# EAGLE library part 6861XX148922_686114148922 (library Wurth_Connectors_WR-FPC)
WR-FPC 1.00 mm SMT ZIF Horizontal - Bottom Contact - Hinge Type KIND PROPERTIES Pitch 1 mm MATERIAL PROPERTIES Insulator Material PA6T Contact Material Phosphor Bronze Contact Plating 120 (µ") Tin over 50 (µ") Nickel Contact Type Stamped Solder Tabs Brass <https://www.we-online.com/catalog/media/o58875v209%20Family_Con_FPC_ZIF_100_6861xx148922.jpg> Details see: https://www.we-online.com/catalog/en/FPC_1_00_SMT_ZIF_HORIZONTAL_BOTTOM_CONTACT_HINGE_TYPE_6861XX148922/ Updated by Ella Wu 2020-08-26 2020(C) Wurth Elektronik
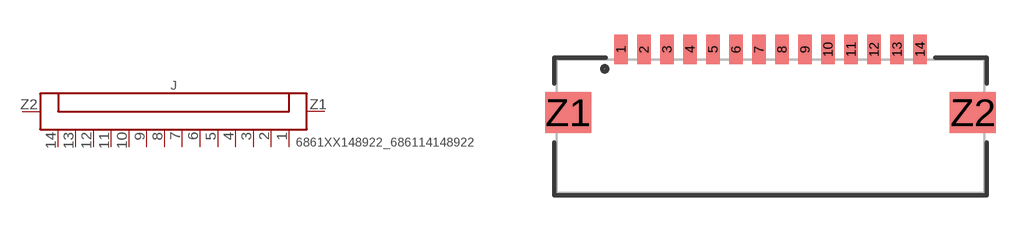
[diagram p88: symbol with the pads of 686114148922; footprint 686114148922]

Designator prefix J

## 6861XX148922_686114148922 (CONTACT-RESISTANCE: 50mOhm; DATASHEET-URL: https://www.we-online.com/catalog/datasheet/686114148922.pdf; IR: 1A; L: 18.6mm; MATE-WITH: WR-FFC 1.00 mm Flat Flexible Cable Type 1 (Contacts on same side)/ Type 2 (Contacts opposite); PACKAGING: Tape and Reel; PART-NUMBER: 686114148922; PINS: 14; PITCH: 1mm; TYPE: Horizontal; VALUE: 686114148922; WORKING-VOLTAGE: 100V(AC))  [686114148922]
1  1  pas
2  2  pas
3  3  pas
4  4  pas
5  5  pas
6  6  pas
7  7  pas
8  8  pas
9  9  pas
10  10  pas
11  11  pas
12  12  pas
13  13  pas
14  14  pas
Z1  Z1  pas
Z2  Z2  pas

## Footprint 686114148922 (pad centres in mm)
WR-FPC 1.00 mm SMT ZIF Horizontal - Bottom Contact - Hinge Type,14Pins
smd 0.6 x 1.3: 1 -6.5,3.35; 2 -5.5,3.35; 3 -4.5,3.35; 4 -3.5,3.35; 5 -2.5,3.35; 6 -1.5,3.35; 7 -0.5,3.35; 8 0.5,3.35; 9 1.5,3.35; 10 2.5,3.35; 11 3.5,3.35; 12 4.5,3.35; 13 5.5,3.35; 14 6.5,3.35
smd 2 x 1.8: Z1 -8.8,0.6; Z2 8.8,0.6